# EAGLE library part G3VM-61E1 (library Jim-ElectroMechanical-Retired)
Omron NO solid state relay
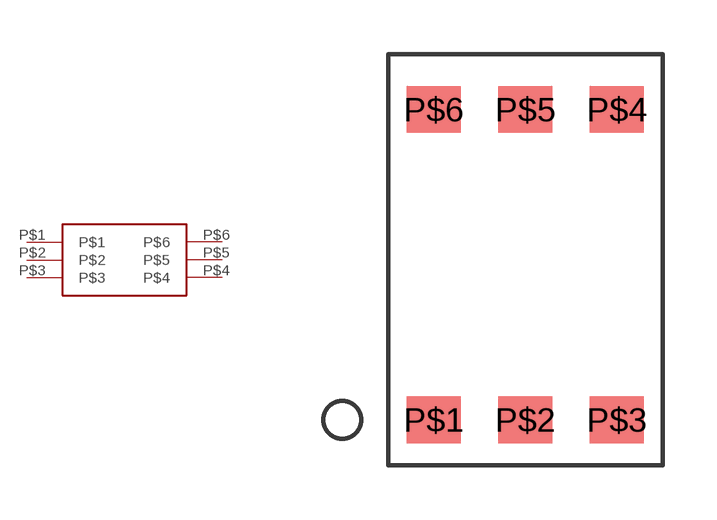
[diagram p0: symbol with the pads of G3VM-61E1; footprint G3VM-61E1]

Designator prefix -

## G3VM-61E1 (PROD_ID: TRANS-08720)  [G3VM-61E1]
P$1  P$1
P$2  P$2
P$3  P$3
P$4  P$4
P$5  P$5
P$6  P$6

## Footprint G3VM-61E1 (pad centres in mm)
smd 1.5 x 1.3: P$1 0,0; P$2 2.54,0; P$3 5.08,0; P$4 5.08,8.62; P$5 2.54,8.62; P$6 0,8.62